# EAGLE library part CONN_04 (library HBPMouse)
Multi connection point. Often used as Generic Header-pin footprint for 0.1 inch spaced/style header connections On any of the 0.1 inch spaced packages, you can populate with these: Break Away Headers - Straight <https://www.sparkfun.com/products/116> (PRT-00116) Break Away Male Headers - Right Angle <https://www.sparkfun.com/products/553> (PRT-00553) Female Headers <https://www.sparkfun.com/products/115> (PRT-00115) Break Away Headers - Machine Pin <https://www.sparkfun.com/products/117> (PRT-00117) Break Away Female Headers - Swiss Machine Pin <https://www.sparkfun.com/products/743> (PRT-00743) For SCREWTERMINALS and SPRING TERMINALS visit here: Screw Terimnals on SparkFun.com <https://www.sparkfun.com/search/results?term=Screw+Terminals> (5mm/3.5mm/2.54mm spacing) This device is also useful as a general connection point to wire up your design to another part of your project. Our various solder wires solder well into these plated through hole pads. Hook-Up Wire - Assortment (Stranded, 22 AWG) <https://www.sparkfun.com/products/11375> (PRT-11375) Hook-Up Wire - Assortment (Solid Core, 22 AWG) <https://www.sparkfun.com/products/11367> (PRT-11367) View the entire wire category on our website here <https://www.sparkfun.com/categories/141> Special notes: Molex polarized connector foot print use with SKU : PRT-08231 with associated crimp pins and housings. 1MM SMD Version SKU: PRT-10208
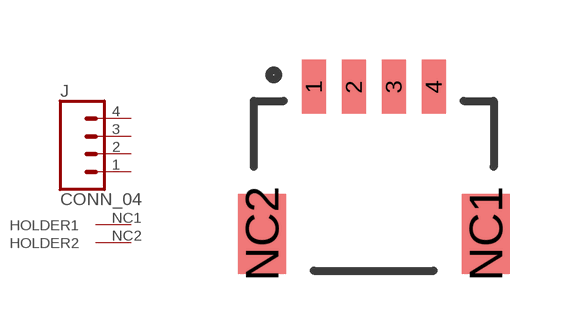
[diagram p5: symbol with the pads of JST04_SH_1MM; footprint JST04_SH_1MM]

Designator prefix J

## CONN_04SMD2 (PROD_ID: CONN-10310; SF_ID: PRT-10208)  [JST04_SH_1MM]
1  1  pas
2  2  pas
3  3  pas
4  4  pas
NC1  HOLDER1  pwr
NC2  HOLDER2  pwr

## Footprint JST04_SH_1MM (pad centres in mm)
SMD- 4 Pin Right Angle Specifications: Pin count:4 Pin pitch:0.1" Example device(s): CONN_04
smd 0.6 x 1.35: 1 -1.5,0; 2 -0.5,0; 3 0.5,0; 4 1.5,0
smd 1.2 x 2: NC1 2.8,-3.675; NC2 -2.8,-3.675